# Altium footprint library BNX02.PcbLib: 1 footprints
Each footprint in its own frame and in the unit in brackets; x right, y up, seen from the top. Pads: shape width x height; smd on the part's side, far side on the other; paste and mask are expansions set on the pad; w line width, h text height; cw(c..) or ccw(c..) is an arc to the next point about the centre after c.
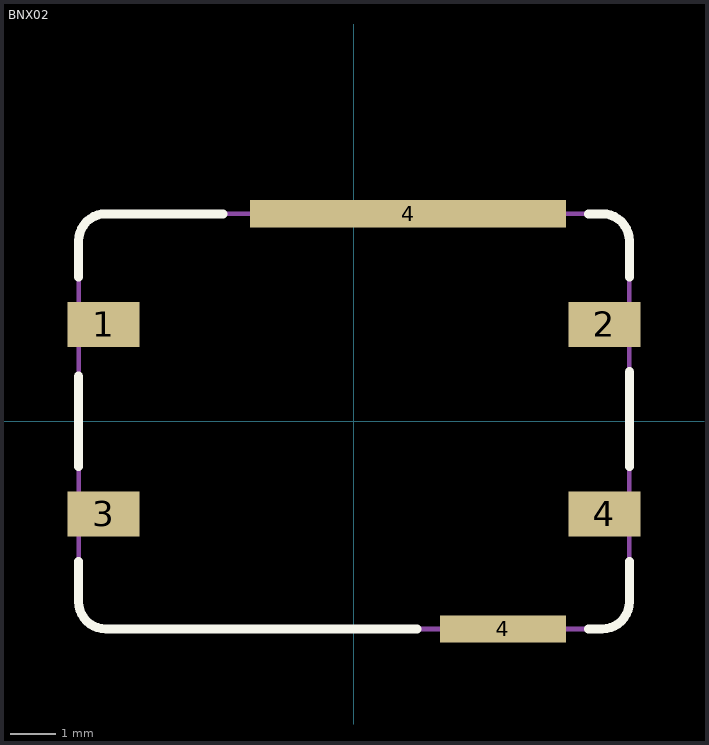
[diagram p0: the footprint, top view; thin cyan lines are the x and y axes]

## BNX02 [mm] "Block Type EMIFIL"
height 3.5
pads (6):
  rect 1.6x1 smd: 1(-5.55,2.15) 2(5.55,2.15) 3(-5.55,-2.05) 4(5.55,-2.05)
  rect 7x0.6 smd: 4(1.2,4.6)
  rect 2.8x0.6 smd: 4(3.3,-4.6)
Top Overlay:
  lines w0.2: -6.1,-3.1 -6.1,-4 ccw(c-5.5,-4) -5.5,-4.6 -2.75,-4.6 1.4,-4.6 ; -6.1,-1 -6.1,1 ; -6.1,3.2 -6.1,4 cw(c-5.5,4) -5.5,4.6 -2.9,4.6 ; 5.2,-4.6 5.5,-4.6 ccw(c5.5,-4) 6.1,-4 6.1,-3.1 ; 5.2,4.6 5.5,4.6 cw(c5.5,4) 6.1,4 6.1,3.2 ; 6.1,-1 6.1,1.1
Mechanical 13:
  lines w0.1: -6.1,-4 ccw(c-5.5,-4) -5.5,-4.6 5.5,-4.6 ccw(c5.5,-4) 6.1,-4 6.1,4 ccw(c5.5,4) 5.5,4.6 -5.5,4.6 ccw(c-5.5,4) -6.1,4 -6.1,-4
3D body: height 3.5, standoff 0, extent -6.111,-4.611 6.111,4.611